# Altium footprint library robot_eseo.PcbLib: 96 footprints (part 2 of 6)
Each footprint in its own frame and in the unit in brackets; x right, y up, seen from the top. Pads: shape width x height; smd on the part's side, far side on the other; paste and mask are expansions set on the pad; w line width, h text height; cw(c..) or ccw(c..) is an arc to the next point about the centre after c.
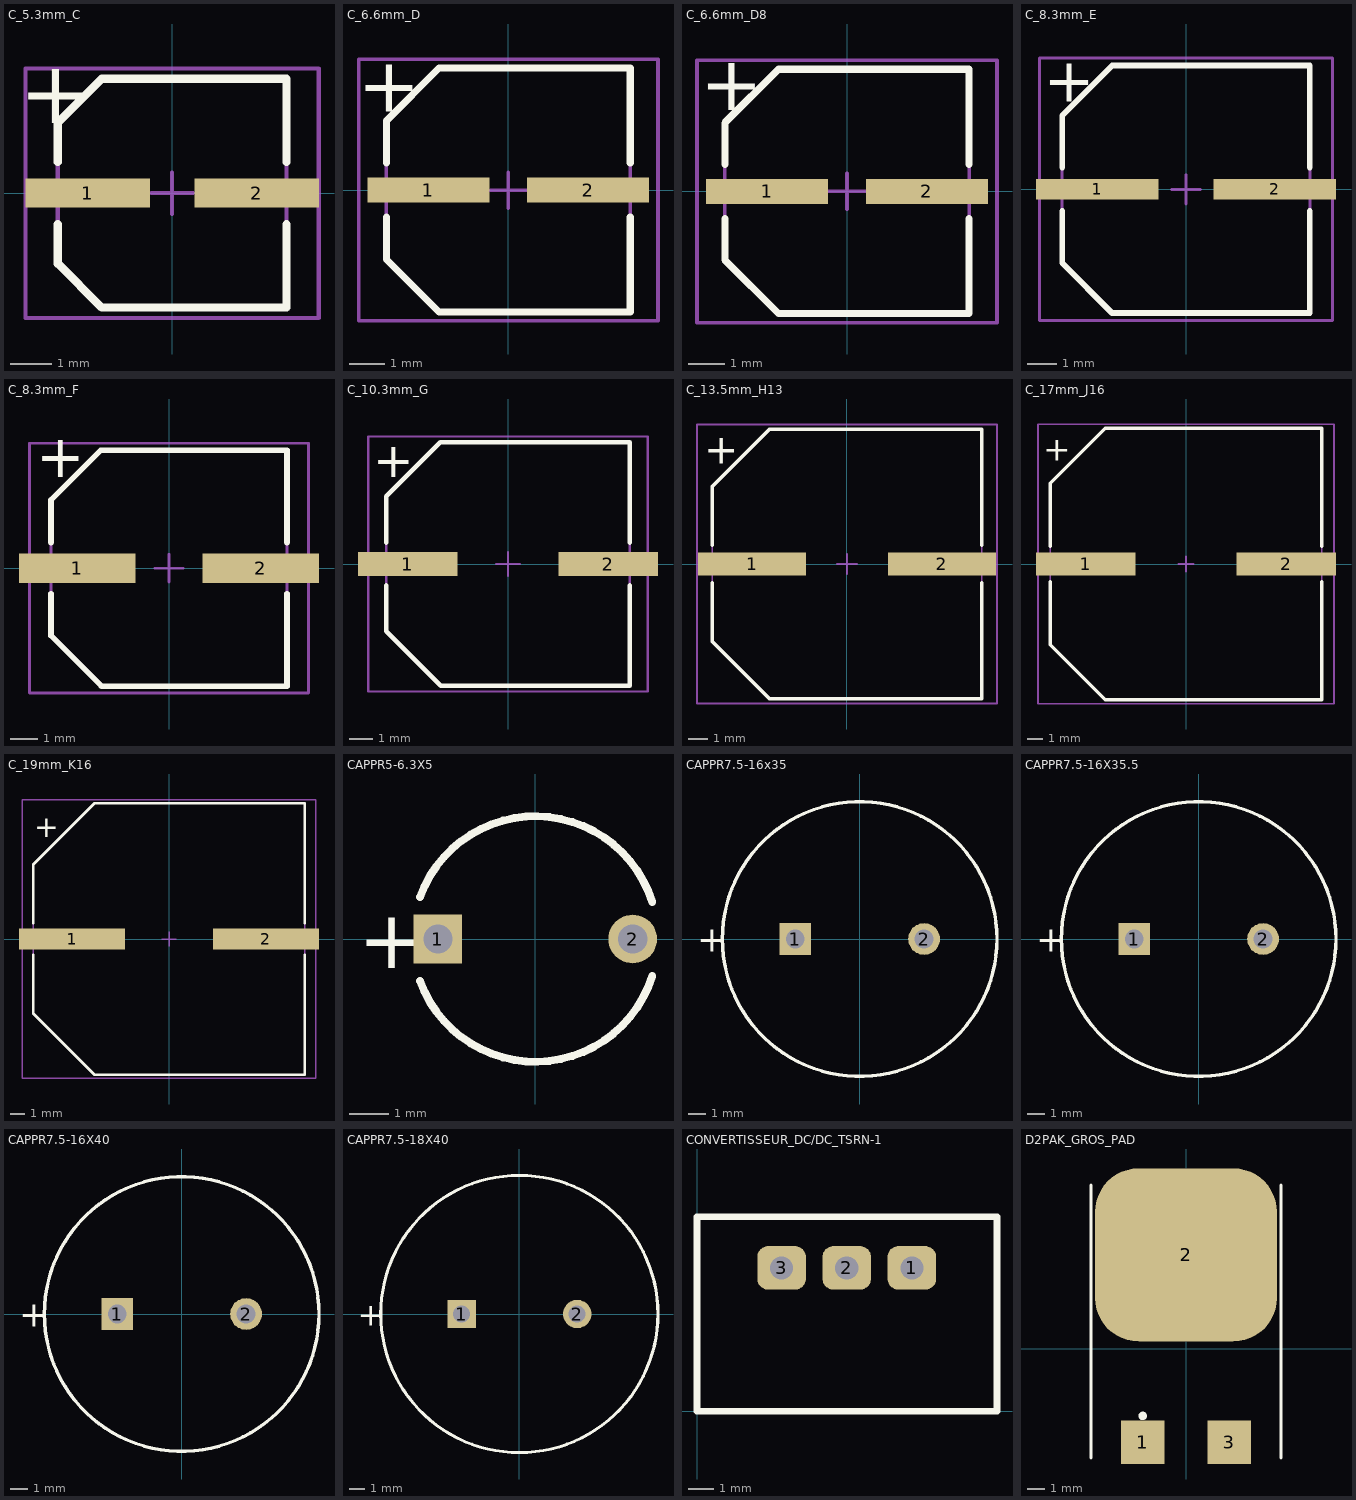
[diagram p1: the footprints below, top view; thin cyan lines are the x and y axes]

## C_5.3mm_C [mm] "Capacitor Aluminium Electrolytic,Caze C, IPC Medium Density"
height 5.8
pads (2):
  rect 3x0.7 smd: 1(-2.032,0) 2(2.032,0)
Top Overlay:
  lines w0.2: -2.75,-0.75 -2.75,-1.695 -1.695,-2.75 2.75,-2.75 2.75,-0.75 ; -2.75,0.75 -2.75,1.695 -1.695,2.75 2.75,2.75 2.75,0.75
  text "+" at -3.683,1.676 h1.52
Mechanical 13:
  lines w0.1: -2.75,-1.695 -1.695,-2.75 2.75,-2.75 2.75,2.75 -1.67,2.75 -2.75,1.67 -2.75,-1.695
Mechanical 15:
  lines w0.1: -0.5,0 0.5,0 ; 0,-0.5 0,0.5 ; -3.525,-3 3.525,-3 3.525,3 -3.525,3 -3.525,-3
3D body: height 5.8, standoff 0, extent -2.751,-2.751 2.751,2.751
3D body "capacitor size C.STEP": height 5.41, standoff -0.01, extent -2.954,-2.658 2.946,2.642

## C_6.6mm_D [mm] "Capacitor Aluminium Electrolytic,Caze D, IPC Medium Density"
height 5.8
pads (2):
  rect 3.4x0.7 smd: 1(-2.225,0) 2(2.225,0)
Top Overlay:
  lines w0.2: -3.4,-0.75 -3.4,-1.934 -1.934,-3.4 3.4,-3.4 3.4,-0.75 ; -3.4,0.75 -3.4,1.934 -1.934,3.4 3.4,3.4 3.4,0.75
  text "+" at -4.191,2.184 h1.52
Mechanical 13:
  lines w0.1: -3.4,-1.934 -3.4,1.934 -1.934,3.4 3.4,3.4 3.4,-3.4 -1.934,-3.4 -3.4,-1.934
Mechanical 15:
  lines w0.1: -0.5,0 0.5,0 ; 0,-0.5 0,0.5 ; -4.175,-3.65 4.175,-3.65 4.175,3.65 -4.175,3.65 -4.175,-3.65
3D body: height 5.8, standoff 0, extent -3.401,-3.401 3.401,3.401
3D body "capacitor size D.STEP": height 5.41, standoff -0.01, extent -3.495,-3.3 3.505,3.3

## C_6.6mm_D8 [mm] "Capacitor Aluminium Electrolytic,Caze D8, IPC Medium Density"
height 7.7
pads (2):
  rect 3.4x0.7 smd: 1(-2.225,0) 2(2.225,0)
Top Overlay:
  lines w0.2: -3.4,-0.75 -3.4,-1.909 -1.909,-3.4 3.4,-3.4 3.4,-0.75 ; -3.4,0.75 -3.4,1.909 -1.909,3.4 3.4,3.4 3.4,0.75
  text "+" at -4.089,2.261 h1.52
Mechanical 13:
  lines w0.1: -3.4,-1.858 -3.4,1.883 -1.883,3.4 3.4,3.4 3.4,-3.4 -1.858,-3.4 -3.4,-1.858
Mechanical 15:
  lines w0.1: -0.5,0 0.5,0 ; 0,-0.5 0,0.5 ; -4.175,-3.65 4.175,-3.65 4.175,3.65 -4.175,3.65 -4.175,-3.65
3D body: height 7.7, standoff 0, extent -3.401,-3.401 3.401,3.401
3D body "capacitor size D8.STEP": height 7.71, standoff -0.01, extent -3.495,-3.302 3.505,3.298

## C_8.3mm_E [mm] "Capacitor Aluminium Electrolytic,Caze E, IPC Medium Density"
height 6.2
pads (2):
  rect 4.2x0.7 smd: 1(-3.048,0) 2(3.048,0)
Top Overlay:
  lines w0.2: -4.25,-0.75 -4.25,-2.532 -2.532,-4.25 4.25,-4.25 4.25,-0.75 ; -4.25,0.75 -4.25,2.532 -2.532,4.25 4.25,4.25 4.25,0.75
  text "+" at -4.877,2.997 h1.52
Mechanical 13:
  lines w0.1: -4.25,-2.532 -4.25,2.481 -2.481,4.25 4.25,4.25 4.25,-4.267 -2.515,-4.267 -4.25,-2.532
Mechanical 15:
  lines w0.1: -0.5,0 0.5,0 ; 0,-0.5 0,0.5 ; -5.025,-4.5 5.025,-4.5 5.025,4.5 -5.025,4.5 -5.025,-4.5
3D body: height 6.2, standoff 0, extent -4.251,-4.268 4.251,4.251
3D body "capacitor size E.STEP": height 6.2, standoff -0.01, extent -4.504,-4.15 4.496,4.15

## C_8.3mm_F [mm] "Capacitor Aluminium Electrolytic,Caze F, IPC Medium Density"
height 10.2
pads (2):
  rect 4.2x1.05 smd: 1(-3.302,0) 2(3.302,0)
Top Overlay:
  lines w0.2: -4.25,-0.925 -4.25,-2.43 -2.43,-4.25 4.25,-4.25 4.25,-0.925 ; -4.25,0.925 -4.25,2.456 -2.456,4.25 4.25,4.25 4.25,0.925
  text "+" at -4.775,3.277 h1.52
Mechanical 13:
  lines w0.1: -4.25,-2.379 -4.25,2.405 -2.405,4.25 4.25,4.25 4.25,-4.25 -2.379,-4.25 -4.25,-2.379
Mechanical 15:
  lines w0.1: -0.5,0 0.5,0 ; 0,-0.5 0,0.5 ; -5.025,-4.5 5.025,-4.5 5.025,4.5 -5.025,4.5 -5.025,-4.5
3D body: height 10.2, standoff 0, extent -4.25,-4.25 4.25,4.25
3D body "capacitor size F.STEP": height 10.21, standoff -0.01, extent -4.95,-4.166 4.95,4.134

## C_10.3mm_G [mm] "Capacitor Aluminium Electrolytic,Caze G, IPC Medium Density"
height 10.2
pads (2):
  rect 4.3x1.05 smd: 1(-4.318,0) 2(4.318,0)
Top Overlay:
  lines w0.2: -5.25,-0.925 -5.25,-2.903 -2.903,-5.25 5.25,-5.25 5.25,-0.925 ; -5.25,0.925 -5.25,2.929 -2.929,5.25 5.25,5.25 5.25,0.925
  text "+" at -5.817,3.734 h1.52
Mechanical 13:
  lines w0.1: -5.25,-2.929 -2.929,-5.25 5.25,-5.25 5.25,5.25 -2.878,5.25 -5.25,2.878 -5.25,-2.929
Mechanical 15:
  lines w0.1: -0.5,0 0.5,0 ; 0,-0.5 0,0.5 ; -6.025,-5.5 6.025,-5.5 6.025,5.5 -6.025,5.5 -6.025,-5.5
3D body: height 10.2, standoff 0, extent -5.251,-5.251 5.251,5.251
3D body "capacitor size G.STEP": height 10.21, standoff -0.01, extent -5.8,-5.156 5.8,5.144

## C_13.5mm_H13 [mm] "Capacitor Aluminium Electrolytic,Caze H13, IPC Medium Density"
height 13.5
pads (2):
  rect 5.5x1.15 smd: 1(-4.826,0) 2(4.826,0)
Top Overlay:
  lines w0.2: -6.85,-0.975 -6.85,-3.945 -3.945,-6.85 6.85,-6.85 6.85,-0.975 ; -6.85,0.975 -6.85,3.945 -3.945,6.85 6.85,6.85 6.85,0.975
  text "+" at -7.264,5.105 h1.52
Mechanical 13:
  lines w0.1: -6.85,-3.945 -3.945,-6.85 6.85,-6.85 6.85,6.85 -3.945,6.85 -6.85,3.945 -6.85,-3.945
Mechanical 15:
  lines w0.1: -0.5,0 0.5,0 ; 0,-0.5 0,0.5 ; -7.625,-7.1 7.625,-7.1 7.625,7.1 -7.625,7.1 -7.625,-7.1
3D body: height 13.5, standoff 0, extent -6.851,-6.851 6.851,6.851
3D body "capacitor size H13.STEP": height 13.5, standoff -0.01, extent -6.9,-6.731 6.9,6.769

## C_17mm_J16 [mm] "Capacitor Aluminium Electrolytic,Caze J16, IPC Medium Density"
height 16.5
pads (2):
  rect 6.3x1.45 smd: 1(-6.35,0) 2(6.35,0)
Top Overlay:
  lines w0.2: -8.6,-1.125 -8.6,-5.116 -5.116,-8.6 8.6,-8.6 8.6,-1.125 ; -8.6,1.125 -8.6,5.116 -5.116,8.6 8.6,8.6 8.6,1.125
  text "+" at -9.042,6.528 h1.52
Mechanical 13:
  lines w0.1: -8.6,-5.116 -8.6,5.116 -5.116,8.6 8.6,8.6 8.6,-8.6 -5.116,-8.6 -8.6,-5.116
Mechanical 15:
  lines w0.1: -0.5,0 0.5,0 ; 0,-0.5 0,0.5 ; -9.375,-8.85 9.375,-8.85 9.375,8.85 -9.375,8.85 -9.375,-8.85
3D body: height 16.5, standoff 0, extent -8.601,-8.601 8.601,8.601
3D body "capacitor size J16.STEP": height 16.5, standoff -0.01, extent -8.89,-8.5 8.81,8.5

## C_19mm_K16 [mm] "Capacitor Aluminium Electrolytic,Caze K16, IPC Medium Density"
height 16.5
pads (2):
  rect 7.5x1.45 smd: 1(-6.858,0) 2(6.858,0)
Top Overlay:
  lines w0.2: -9.6,-1.125 -9.6,-5.259 -5.259,-9.6 9.6,-9.6 9.6,-1.125 ; -9.6,1.125 -9.6,5.259 -5.259,9.6 9.6,9.6 9.6,1.125
  text "+" at -9.525,7.188 h1.52
Mechanical 13:
  lines w0.1: -9.6,-5.259 -5.259,-9.6 9.6,-9.6 9.6,9.6 -5.259,9.6 -9.6,5.259 -9.6,-5.259
Mechanical 15:
  lines w0.1: -0.5,0 0.5,0 ; 0,-0.5 0,0.5 ; -10.375,-9.85 10.375,-9.85 10.375,9.85 -10.375,9.85 -10.375,-9.85
3D body: height 16.5, standoff 0, extent -9.601,-9.601 9.601,9.601
3D body "capacitor size K16.STEP": height 16.5, standoff -0.01, extent -10.05,-9.525 10.05,9.475

## CAPPR5-6.3X5 [mm] "Capacitor, Electrolytic, Radial; Body 6.3 x 5 mm (Dia.xH typ); Pin Spacing 5 mm (typ)"
height 6
pads (2):
  rect 1.25x1.25 hole 0.75: 1(-2.5,0)
  round 1.25 hole 0.75: 2(2.5,0)
Top Overlay:
  lines w0.2: -2.961,-1.075 ccw(c0,0) 3.003,-0.95 ; -2.961,1.075 cw(c0,0) 3.003,0.95
  text "+" at -4.55,-0.75 h1.5

## CAPPR7.5-16x35 [mm] "Capacitor, Electrolytic, Radial; Body 16 x 35 mm (Dia.xH typ); Pin Spacing 7.5 mm (typ)"
pads (2):
  rect 1.85x1.85 hole 1.1: 1(-3.75,0)
  round 1.85 hole 1.1: 2(3.75,0)
Top Overlay:
  circle w0.2: c0,0 r8
  text "+" at -9.475,-0.75 h1.5

## CAPPR7.5-16X35.5 [mm] "Capacitor, Electrolytic, Radial; Body 16 x 35.5 mm (Dia.xH typ); Pin Spacing 7.5 mm (typ)"
height 37.5
pads (2):
  rect 1.85x1.85 hole 1.1: 1(-3.75,0)
  round 1.85 hole 1.1: 2(3.75,0)
Top Overlay:
  circle w0.2: c0,0 r8
  text "+" at -9.475,-0.75 h1.5

## CAPPR7.5-16X40 [mm] "Capacitor, Electrolytic, Radial; Body 16 x 40 mm (Dia.xH typ); Pin Spacing 7.5 mm (typ)"
height 41.5
pads (2):
  rect 1.85x1.85 hole 1.1: 1(-3.75,0)
  round 1.85 hole 1.1: 2(3.75,0)
Top Overlay:
  circle w0.2: c0,0 r8
  text "+" at -9.475,-0.75 h1.5
3D body: height 40, standoff 0, extent -7.999,-7.999 7.999,7.999

## CAPPR7.5-18X40 [mm] "Capacitor, Electrolytic, Radial; Body 18 x 40 mm (Dia.xH typ); Pin Spacing 7.5 mm (typ)"
height 42
pads (2):
  rect 1.85x1.85 hole 1.1: 1(-3.75,0)
  round 1.85 hole 1.1: 2(3.75,0)
Top Overlay:
  circle w0.2: c0,0 r9
  text "+" at -10.475,-0.75 h1.5
3D body: height 40, standoff 0, extent -8.999,-8.999 8.999,8.999

## CONVERTISSEUR_DC/DC_TSRN-1 [mm] "CONVERTISSEUR_DC/DC_TSRN-1"
height 7.5
pads (3):
  rrect50% 1.9x1.7 hole 0.9: 1(8.38,5.6) 2(5.84,5.6) 3(3.3,5.6)
Top Overlay:
  lines w0.254: 0,0 11.7,0 11.7,7.6 0,7.6 0,0
Bottom Overlay:
  circle w0.5: c9.017,6.985 r0.254

## D2PAK_GROS_PAD [mm] "D2-PAK/TO-263-AB; 3 Leads (1 Cropped); Body 15.5 (inc. leads) x 10.5 mm (LxW max)"
height 4.69
pads (3):
  rect 2.54x2.54 smd: 1(-2.54,-5.5) 3(2.54,-5.5)
  rrect50% 10.668x10.16 smd: 2(0,5.5)
Top Overlay:
  circle w0.25: c-2.54,-3.95 r0.125
  lines w0.2: -5.575,-6.4 -5.575,9.6 ; 5.575,-6.4 5.575,9.6
3D body "D2PAK.step": height 4.83, standoff 0, extent -5.081,-6.223 5.589,9.657